# Altium footprint library Connector.PcbLib: 23 footprints (part 2 of 2)
Each footprint in its own frame and in the unit in brackets; x right, y up, seen from the top. Pads: shape width x height; smd on the part's side, far side on the other; paste and mask are expansions set on the pad; w line width, h text height; cw(c..) or ccw(c..) is an arc to the next point about the centre after c.
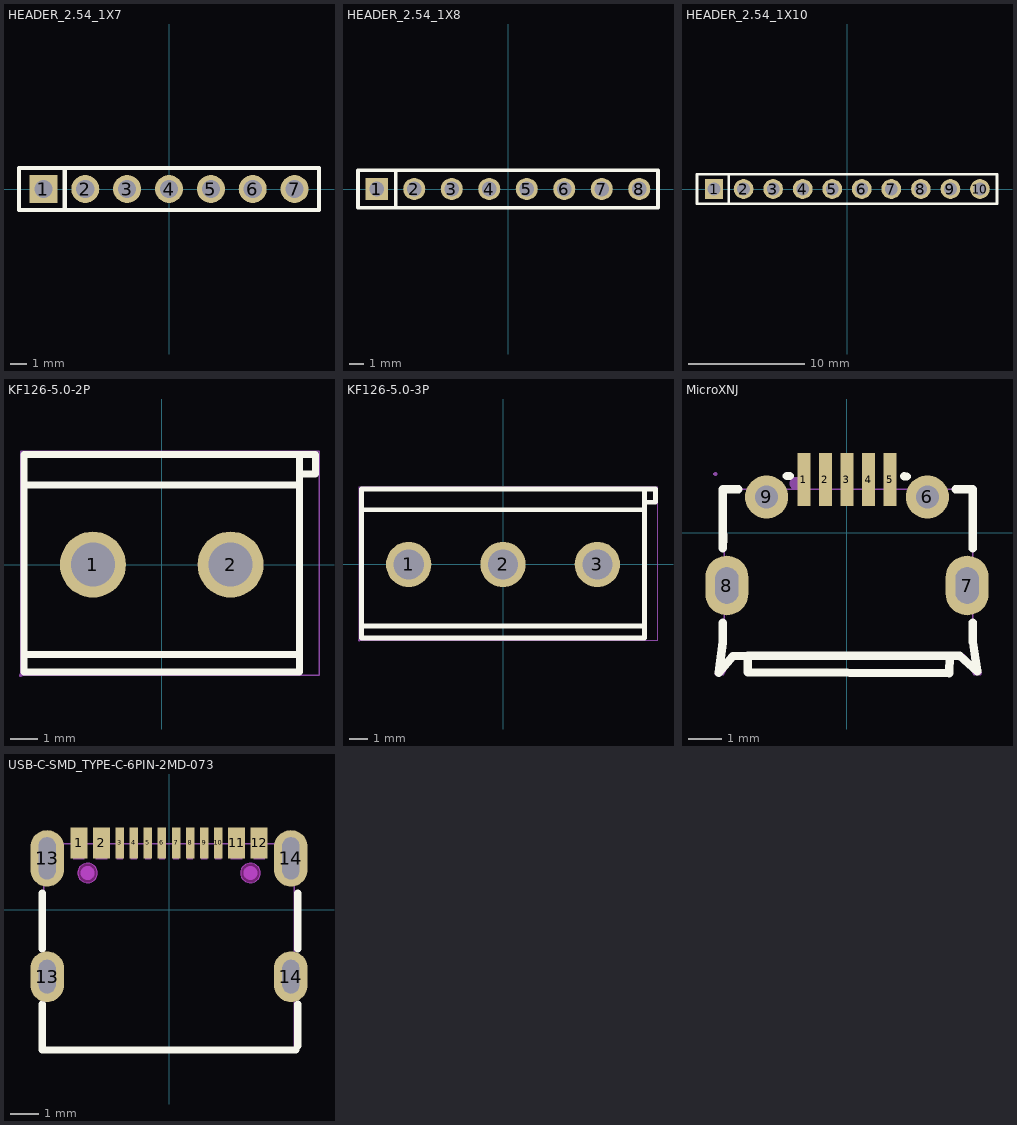
[diagram p1: the footprints below, top view; thin cyan lines are the x and y axes]

## HEADER_2.54_1X7 [mm]
pads (7):
  rect 1.7x1.7 hole 1.1: 1(-7.62,0)
  round 1.7 hole 1.1: 2(-5.08,0) 3(-2.54,0) 4(0,0) 5(2.54,0) 6(5.08,0) 7(7.62,0)
Top Overlay:
  lines w0.254: -6.326,-1.27 -6.326,1.27 ; -9.1,-1.27 9.1,-1.27 9.1,1.27 -9.1,1.27 -9.1,-1.27
3D body "7-Pin Header - Male - 2.54mm.step": height 8.89, standoff -3.05, extent -8.89,-1.27 8.89,1.27

## HEADER_2.54_1X8 [mm]
pads (8):
  rect 1.5x1.5 hole 1: 1(-8.89,0)
  round 1.5 hole 1: 2(-6.35,0) 3(-3.81,0) 4(-1.27,0) 5(1.27,0) 6(3.81,0) 7(6.35,0) 8(8.89,0)
Top Overlay:
  lines w0.254: -7.596,-1.27 -7.596,1.27 ; -10.16,-1.27 -10.16,1.27 10.16,1.27 10.16,-1.27 -10.16,-1.27
3D body "8-Pin Header - Male - 2.54mm.step": height 8.89, standoff -3.05, extent -10.16,-1.27 10.16,1.27

## HEADER_2.54_1X10 [mm]
pads (10):
  rect 1.575x1.7 hole 1.1: 1(-11.43,0)
  round 1.7 hole 1.1: 2(-8.89,0) 3(-6.35,0) 4(-3.81,0) 5(-1.27,0) 6(1.27,0) 7(3.81,0) 8(6.35,0) 9(8.89,0) 10(11.43,0)
Top Overlay:
  lines w0.254: -10.169,-1.27 -10.169,1.27 ; -12.9,-1.27 -12.9,1.27 12.9,1.27 12.9,-1.27 -12.9,-1.27
3D body "10-Pin Header - Male - 2.54mm.step": height 8.89, standoff -3.05, extent -12.7,-1.27 12.7,1.27

## KF126-5.0-2P [mm]
pads (2):
  round 2.4 hole 1.6: 1(-2.5,0) 2(2.5,0)
Top Overlay:
  lines w0.254: -5,-3.273 5,-3.273 ; -5,2.9 5,2.9 ; 5,3.297 5.588,3.297 5.588,4 5,4 ; 5,4 5,-3.9 -5,-3.9 -5,4 5,4
Mechanical 15:
  region: -5.067,-4.027 -5.068,-4.003 -5.103,-3.969 -5.151,-3.969 -5.186,-4.003 -5.187,-4.027 -5.186,-4.051 -5.151,-4.085 -5.103,-4.085 -5.068,-4.051
  region: 3.2,0 3.2,0.092 3.152,0.27 3.06,0.43 2.93,0.56 2.77,0.652 2.592,0.7 2.408,0.7 2.23,0.652 2.07,0.56 1.94,0.43 1.848,0.27 1.8,0.092 1.8,0 1.8,-0.092 1.848,-0.27 1.94,-0.43 2.07,-0.56 2.23,-0.652 2.408,-0.7 2.592,-0.7 2.77,-0.652 2.93,-0.56 3.06,-0.43 3.152,-0.27 3.2,-0.092
  region: -1.8,0 -1.8,0.092 -1.848,0.27 -1.94,0.43 -2.07,0.56 -2.23,0.652 -2.408,0.7 -2.592,0.7 -2.77,0.652 -2.93,0.56 -3.06,0.43 -3.152,0.27 -3.2,0.092 -3.2,0 -3.2,-0.092 -3.152,-0.27 -3.06,-0.43 -2.93,-0.56 -2.77,-0.652 -2.592,-0.7 -2.408,-0.7 -2.23,-0.652 -2.07,-0.56 -1.94,-0.43 -1.848,-0.27 -1.8,-0.092
  lines w0.051: -5.127,-4.027 -5.127,4.127 5.715,4.127 5.715,-4.027 -5.127,-4.027
3D body "KF126-5.0-2P.STEP": height 10.05, standoff -3.95, extent -5.15,-4 5.15,3.9

## KF126-5.0-3P [mm]
pads (3):
  round 2.4 hole 1.6: 1(-5,0) 2(0,0) 3(5,0)
Top Overlay:
  lines w0.254: -7.5,-3.273 7.5,-3.273 ; -7.5,2.9 7.5,2.9 ; 7.5,-3.9 7.5,4 ; 7.5,-3.9 -7.5,-3.9 -7.5,4 7.5,4 8.088,4 8.088,3.297 7.5,3.297
Mechanical 15:
  region: -4.3,0 -4.3,0.092 -4.348,0.27 -4.44,0.43 -4.57,0.56 -4.73,0.652 -4.908,0.7 -5.092,0.7 -5.27,0.652 -5.43,0.56 -5.56,0.43 -5.652,0.27 -5.7,0.092 -5.7,0 -5.7,-0.092 -5.652,-0.27 -5.56,-0.43 -5.43,-0.56 -5.27,-0.652 -5.092,-0.7 -4.908,-0.7 -4.73,-0.652 -4.57,-0.56 -4.44,-0.43 -4.348,-0.27 -4.3,-0.092
  region: 0.7,0 0.7,0.092 0.652,0.27 0.56,0.43 0.43,0.56 0.27,0.652 0.092,0.7 -0.092,0.7 -0.27,0.652 -0.43,0.56 -0.56,0.43 -0.652,0.27 -0.7,0.092 -0.7,0 -0.7,-0.092 -0.652,-0.27 -0.56,-0.43 -0.43,-0.56 -0.27,-0.652 -0.092,-0.7 0.092,-0.7 0.27,-0.652 0.43,-0.56 0.56,-0.43 0.652,-0.27 0.7,-0.092
  region: 5.7,0 5.7,0.092 5.652,0.27 5.56,0.43 5.43,0.56 5.27,0.652 5.092,0.7 4.908,0.7 4.73,0.652 4.57,0.56 4.44,0.43 4.348,0.27 4.3,0.092 4.3,0 4.3,-0.092 4.348,-0.27 4.44,-0.43 4.57,-0.56 4.73,-0.652 4.908,-0.7 5.092,-0.7 5.27,-0.652 5.43,-0.56 5.56,-0.43 5.652,-0.27 5.7,-0.092
  region: -7.567,-4.027 -7.568,-4.003 -7.603,-3.968 -7.652,-3.968 -7.687,-4.003 -7.687,-4.027 -7.687,-4.052 -7.652,-4.086 -7.603,-4.086 -7.568,-4.051
  lines w0.051: -7.627,-4.027 8.215,-4.027 8.215,4.127 -7.627,4.127 -7.627,-4.027
3D body "KF126-5.0-3P.STEP": height 10.05, standoff -3.95, extent -7.651,-3.9 7.651,4

## MicroXNJ [mm]
pads (9):
  rect 0.4x1.6 smd paste-100 mask+0.051: 1(-1.3,1.596) 2(-0.65,1.596) 3(0,1.596) 4(0.65,1.596) 5(1.3,1.596)
  round 1.3 hole 0.7: 6(2.425,1.074) 9(-2.425,1.074)
  oval 1.3x1.8 hole 0.7 slot 1.1 at 90 deg: 7(3.625,-1.596) 8(-3.625,-1.596)
Top Overlay:
  lines w0.254: -3.745,-2.719 -3.745,-3.315 -3.87,-4.23 -3.45,-3.735 -3,-3.715 ; -3.745,-0.473 -3.745,1.31 -3.274,1.31 ; -3.735,-0.276 -3.731,-0.068 ; -3.733,-0.275 -3.732,-0.101 ; -1.814,1.707 -1.731,1.707 ; 1.731,1.693 1.799,1.693 ; 3.274,1.31 3.79,1.31 3.79,-0.481 ; 3.79,-3.304 3.79,-2.712 ; 3.8,-3.304 3.93,-4.19 3.4,-3.715 3.1,-3.715 ; -3,-3.715 3.1,-3.715 ; -3,-3.715 -3,-4.215 3.09,-4.245 3.1,-3.715
Mechanical 6:
  circle w0.2: c-1.53,1.479 r0.1
Mechanical 15:
  region: -3.91,1.766 -3.911,1.79 -3.946,1.825 -3.994,1.825 -4.029,1.79 -4.03,1.766 -4.029,1.741 -3.994,1.707 -3.946,1.707 -3.911,1.741
  region: -3.775,-1.141 -3.475,-1.141 -3.475,-2.051 -3.775,-2.051
  region: 3.475,-1.141 3.775,-1.141 3.775,-2.051 3.475,-2.051
  region: -2.675,0.974 -2.675,1.174 -2.175,1.174 -2.175,0.974
  region: 2.175,0.974 2.175,1.174 2.675,1.174 2.675,0.974
  region: -1.425,0.966 -1.425,1.966 -1.175,1.966 -1.175,0.966
  region: -0.775,0.966 -0.775,1.966 -0.525,1.966 -0.525,0.966
  region: -0.125,0.966 -0.125,1.966 0.125,1.966 0.125,0.966
  region: 0.525,0.966 0.525,1.966 0.775,1.966 0.775,0.966
  region: 1.175,0.966 1.175,1.966 1.425,1.966 1.425,0.966
  lines w0.051: -3.97,-4.281 -3.74,-4.291 -3.45,-3.691 -3.05,-3.691 -3.05,-4.281 -3.03,-4.281 3.15,-4.291 3.15,-3.691 3.54,-3.691 3.83,-4.281 4.03,-4.281 4.05,-4.221 3.79,-3.671 3.79,1.309 -3.7,1.309 -3.7,1.299 -3.7,-3.681 -3.97,-4.281
3D body "MicroXNJ.STEP": height 2.84, standoff -1.15, extent -3.918,-4.5 3.918,1.332

## USB-C-SMD_TYPE-C-6PIN-2MD-073 [mm]
pads (16):
  rect 0.6x1.1 smd paste-100 mask+0.05: 1(-3.2,2.375) 2(-2.4,2.375) 11(2.4,2.375) 12(3.2,2.375)
  rect 0.3x1.1 smd paste-100 mask+0.05: 3(-1.75,2.375) 4(-1.25,2.375) 5(-0.75,2.375) 6(-0.25,2.375) 7(0.25,2.375) 8(0.75,2.375) 9(1.25,2.375) 10(1.75,2.375)
  oval 1.2x1.8 hole 0.6 slot 1.2 at 90 deg paste+0 mask+0.05: 13(-4.325,-2.375) 14(4.325,-2.375)
  oval 1.2x2 hole 0.6 slot 1.5 at 90 deg paste+0 mask+0.05: 13(-4.325,1.825) 14(4.325,1.825)
Top Overlay:
  lines w0.254: -4.5,-3.356 -4.5,-4.975 4.5,-4.975 ; -4.5,-1.394 -4.5,0.594 ; 4.572,-4.826 4.572,-3.353 ; 4.572,-1.397 4.572,0.597
Top Paste:
  drawing of 16 lines, arcs and shapes, not listed
Keep-Out Layer:
  board cut-out: -2.89,1.655 -2.959,1.654 -3.087,1.601 -3.184,1.502 -3.237,1.374 -3.237,1.236 -3.184,1.108 -3.087,1.009 -2.959,0.956 -2.89,0.955 -2.821,0.956 -2.693,1.009 -2.596,1.108 -2.543,1.236 -2.543,1.374 -2.596,1.502 -2.693,1.601 -2.821,1.654 -2.89,1.655
  board cut-out: 2.89,1.655 2.821,1.654 2.693,1.601 2.596,1.502 2.543,1.374 2.543,1.236 2.596,1.108 2.693,1.009 2.821,0.956 2.89,0.955 2.959,0.956 3.087,1.009 3.184,1.108 3.237,1.236 3.237,1.374 3.184,1.502 3.087,1.601 2.959,1.654 2.89,1.655
Mechanical 1:
  circle w0.005: c-2.89,1.305 r0.35
  circle w0.005: c2.89,1.305 r0.35
Mechanical 6:
  circle w0.25: c-2.89,1.305 r0.125
  circle w0.25: c2.89,1.305 r0.125
Mechanical 15:
  region: -4.45,2.709 -4.474,2.709 -4.509,2.674 -4.509,2.625 -4.475,2.59 -4.45,2.589 -4.426,2.59 -4.391,2.625 -4.391,2.674 -4.425,2.709 -4.45,2.709
  region: -1.85,2.649 -1.65,2.649 -1.65,1.799 -1.85,1.799
  region: -0.85,2.649 -0.65,2.649 -0.65,1.799 -0.85,1.799
  region: -1.35,2.649 -1.15,2.649 -1.15,1.799 -1.35,1.799
  region: -0.35,2.649 -0.15,2.649 -0.15,1.799 -0.35,1.799
  region: 0.15,2.649 0.35,2.649 0.35,1.799 0.15,1.799
  region: 0.65,2.649 0.85,2.649 0.85,1.799 0.65,1.799
  region: 1.15,2.649 1.35,2.649 1.35,1.799 1.15,1.799
  region: 1.65,2.649 1.85,2.649 1.85,1.799 1.65,1.799
  region: -3.4,2.649 -3,2.649 -3,1.799 -3.4,1.799
  region: -2.6,2.649 -2.2,2.649 -2.2,1.799 -2.6,1.799
  region: 2.2,2.649 2.6,2.649 2.6,1.799 2.2,1.799
  region: 3,2.649 3.4,2.649 3.4,1.799 3,1.799
  region: -4.45,2.349 -4.2,2.349 -4.2,1.249 -4.45,1.249
  region: 4.2,2.349 4.45,2.349 4.45,1.249 4.2,1.249
  region: -4.45,-2.025 -4.2,-2.025 -4.2,-2.725 -4.45,-2.725
  region: 4.2,-2.025 4.45,-2.025 4.45,-2.725 4.2,-2.725
  lines w0.051: -4.45,-5.001 -4.45,2.349 4.45,2.349 4.45,-5.001 -4.45,-5.001
Multi-Layer:
  pour cut-out: -2.89,1.655 -2.959,1.654 -3.087,1.601 -3.184,1.502 -3.237,1.374 -3.237,1.236 -3.184,1.108 -3.087,1.009 -2.959,0.956 -2.89,0.955 -2.821,0.956 -2.693,1.009 -2.596,1.108 -2.543,1.236 -2.543,1.374 -2.596,1.502 -2.693,1.601 -2.821,1.654 -2.89,1.655
  pour cut-out: 2.89,1.655 2.821,1.654 2.693,1.601 2.596,1.502 2.543,1.374 2.543,1.236 2.596,1.108 2.693,1.009 2.821,0.956 2.89,0.955 2.959,0.956 3.087,1.009 3.184,1.108 3.237,1.236 3.237,1.374 3.184,1.502 3.087,1.601 2.959,1.654 2.89,1.655
3D body "TYPE-C.STEP": height 3.26, standoff -0.9, extent -4.47,-4.99 4.47,2.59